# Altium schematic symbol library TE2343297-2.SchLib: 1 symbol
Pins are listed as number, name and electrical type; pins without a type are passive.

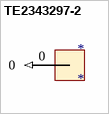
[diagram p0: symbol TE2343297-2]

## TE2343297-2
designator *
TE2343297-2
footprint TE2343297-2
pins: 0 (in)